# EAGLE library part OPA454AIDDA (library myLib)
8-SOIC OPA454AIDDA high voltage op amp
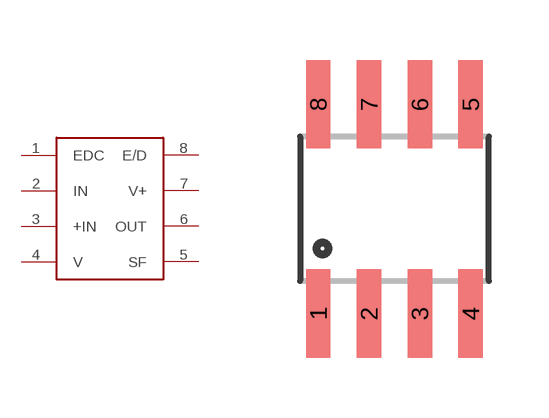
[diagram p5: symbol with the pads of SO08; footprint SO08]

Designator prefix -

## OPA454AIDDA  [SO08]
1  EDC  in
2  IN  in
3  +IN  in
4  V  in
5  SF  out
6  OUT  out
7  V+  in
8  E/D  in

## Footprint SO08 (pad centres in mm)
Small Outline Package Fits JEDEC packages (narrow SOIC-8)
smd 0.61 x 2.21: 1 -1.905,-2.616; 2 -0.635,-2.616; 3 0.635,-2.616; 4 1.905,-2.616; 5 1.905,2.616; 6 0.635,2.616; 7 -0.635,2.616; 8 -1.905,2.616